# EAGLE library part ISSI-DRAM-IS42S16320F-7TL (library Module_ICs)
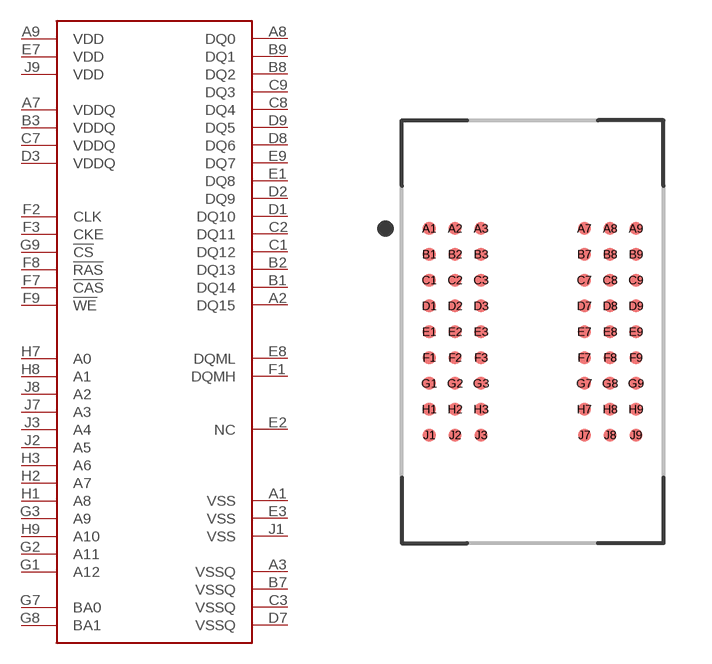
[diagram p52: symbol with the pads of ISSI-DRAM-IS42S16320F-7TL; footprint ISSI-DRAM-IS42S16320F-7TL]

Designator prefix U

## ISSI-DRAM-IS42S16320F-7TL  [ISSI-DRAM-IS42S16320F-7TL]
A1  VSS
A2  DQ15
A3  VSSQ
A7  VDDQ
A8  DQ0
A9  VDD
B1  DQ14
B2  DQ13
B3  VDDQ
B7  VSSQ
B8  DQ2
B9  DQ1
C1  DQ12
C2  DQ11
C3  VSSQ
C7  VDDQ
C8  DQ4
C9  DQ3
D1  DQ10
D2  DQ9
D3  VDDQ
D7  VSSQ
D8  DQ6
D9  DQ5
E1  DQ8
E2  NC
E3  VSS
E7  VDD
E8  DQML
E9  DQ7
F1  DQMH
F2  CLK
F3  CKE
F7  !CAS
F8  !RAS
F9  !WE
G1  A12
G2  A11
G3  A9
G7  BA0
G8  BA1
G9  !CS
H1  A8
H2  A7
H3  A6
H7  A0
H8  A1
H9  A10
J1  VSS
J2  A5
J3  A4
J7  A3
J8  A2
J9  VDD

## Footprint ISSI-DRAM-IS42S16320F-7TL (pad centres in mm)
81-BGA, collapsing, 0.80 mm pitch, 13.00 X 8.00 X 1.20 mm body 81-pin collapsing BGA package with 0.80 mm col pitch and 0.80 mm row pitch with body size 13.00 X 8.00 X 1.20 mm
smd 0.4 x 0.4: A1 -3.2,3.2; A2 -2.4,3.2; A3 -1.6,3.2; A7 1.6,3.2; A8 2.4,3.2; A9 3.2,3.2; B1 -3.2,2.4; B2 -2.4,2.4; B3 -1.6,2.4; B7 1.6,2.4; B8 2.4,2.4; B9 3.2,2.4; C1 -3.2,1.6; C2 -2.4,1.6; C3 -1.6,1.6; C7 1.6,1.6; C8 2.4,1.6; C9 3.2,1.6; D1 -3.2,0.8; D2 -2.4,0.8; D3 -1.6,0.8; D7 1.6,0.8; D8 2.4,0.8; D9 3.2,0.8; E1 -3.2,0; E2 -2.4,0; E3 -1.6,0; E7 1.6,0; E8 2.4,0; E9 3.2,0; F1 -3.2,-0.8; F2 -2.4,-0.8; F3 -1.6,-0.8; F7 1.6,-0.8; F8 2.4,-0.8; F9 3.2,-0.8; G1 -3.2,-1.6; G2 -2.4,-1.6; G3 -1.6,-1.6; G7 1.6,-1.6; G8 2.4,-1.6; G9 3.2,-1.6; H1 -3.2,-2.4; H2 -2.4,-2.4; H3 -1.6,-2.4; H7 1.6,-2.4; H8 2.4,-2.4; H9 3.2,-2.4; J1 -3.2,-3.2; J2 -2.4,-3.2; J3 -1.6,-3.2; J7 1.6,-3.2; J8 2.4,-3.2; J9 3.2,-3.2